# Altium footprint library PC817.PcbLib: 2 footprints
Each footprint in its own frame and in the unit in brackets; x right, y up, seen from the top. Pads: shape width x height; smd on the part's side, far side on the other; paste and mask are expansions set on the pad; w line width, h text height; cw(c..) or ccw(c..) is an arc to the next point about the centre after c.
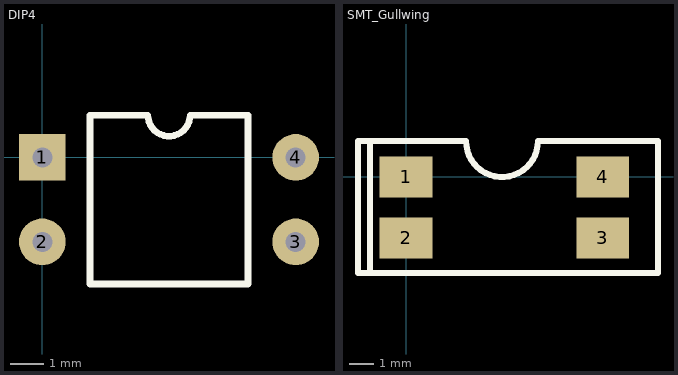
[diagram p0: the footprints below, top view; thin cyan lines are the x and y axes]

## DIP4 [mm]
pads (4):
  rect 1.4x1.4 hole 0.6: 1(0,0)
  round 1.4 hole 0.6: 2(0,-2.54) 3(7.62,-2.54) 4(7.62,0)
Top Overlay:
  lines w0.2: 1.435,-3.81 1.435,1.27 3.175,1.27 ccw(c3.81,1.27) 4.445,1.27 6.185,1.27 6.185,-3.81 1.435,-3.81
3D body "User Library-DIP4-7_62-2_54.step": height 4.8, standoff -2.2, extent -0.13,-3.565 7.75,1.025

## SMT_Gullwing [mm]
pads (4):
  rect 2.2x1.7 smd: 1(0,0) 2(0,-2.54) 3(8.2,-2.54) 4(8.2,0)
Top Overlay:
  lines w0.254: -1.5,-4 -1.5,1.5 ; -2,-4 -2,1.5 2,1.5 2.5,1.5 ccw(c4,1.5) 5.5,1.5 10.5,1.5 10.5,-4 -2,-4
3D body "PC817_SMD.STEP": height 3.85, standoff 0, extent -0.9,-3.59 9.1,0.99